# Altium schematic symbol library 10-Fuse_Osc.SchLib: 11 symbols
Pins are listed as number, name and electrical type; pins without a type are passive.

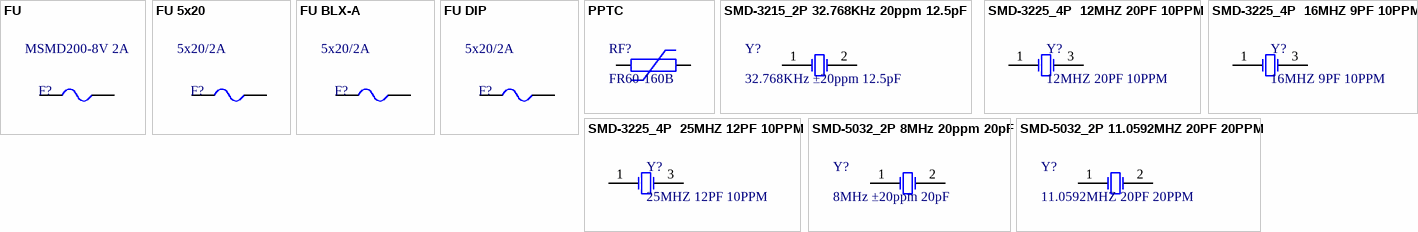
[diagram p0: symbols FU to SMD-5032_2P 11.0592MHZ 20PF 20PPM]

## FU
designator F?, comment MSMD200-8V 2A
贴片保险丝; 版权归属: 源创客; BOM名称: 贴片保险丝; 学习资源: www.ooocke.com
footprint FU 0402 (贴片保险丝)
footprint FU 0603 (贴片保险丝)
footprint FU 0805 (贴片保险丝)
footprint FU 1206 (贴片保险丝)
footprint FU 1210 (贴片保险丝)
footprint FU 1812 (贴片保险丝)
pins: 1, 2

## FU 5x20
designator F?, comment 5x20/2A
5*20保险丝; 版权归属: 源创客; BOM名称: 5*20保险丝; 学习资源: www.ooocke.com
footprint FU 5x20 (5*20保险管底座夹子)
pins: 1, 2

## FU BLX-A
designator F?, comment 5x20/2A
5*20保险丝 BLX-A型保险丝座; 版权归属: 源创客; BOM名称: 5*20保险丝; 学习资源: www.ooocke.com
footprint FU BLX-A (BLX-A型保险丝座)
pins: 1, 2

## FU DIP
designator F?, comment 5x20/2A
直插保险丝; 版权归属: 源创客; BOM名称: 直插保险丝; 学习资源: www.ooocke.com
footprint FU 4x16 (4*16mm(直径，脚距）)
footprint FU 4x16_V (4*16mm(直径，脚距）)
pins: 1, 2

## PPTC
designator RF?, comment FR60-160B
PPTC自恢复保险丝; 版权归属: 源创客; BOM名称: PPTC自恢复保险丝; 学习资源: www.ooocke.com
footprint FR60-160B (直径15.5mm，厚度3mm，脚距5.1mm)
pins: 1, 2

## SMD-3215_2P 32.768KHz 20ppm 12.5pF
designator Y?, comment 32.768KHz ±20ppm 12.5pF
贴片晶振; ComponentLink1Description: 供应商链接; ComponentLink1URL: http://www.szlcsc.com/product/details_33310.html; Package: SMD-3215_2P; Supplier: LC; SuppliersPartNumber: C32346
footprint SMD-3215_2P FC - 135
footprint OSC 3215-2P (3.2*1.5*0.6mm(长宽高))
pins: 1 OSC1, 2 OSC2

## SMD-3225_4P  12MHZ 20PF 10PPM
designator Y?, comment 12MHZ 20PF 10PPM
贴片晶振; ComponentLink1Description: 供应商链接; ComponentLink1URL: http://www.szlcsc.com/product/details_9522.html; Package: SMD-3225_4P; Supplier: LC; SuppliersPartNumber: C9002
footprint SMD-3225_4P
footprint OSC 3225-4P (3.2*2.5*0.7mm(长宽高))
pins: 1 OSC1, 3 OSC2

## SMD-3225_4P  16MHZ 9PF 10PPM
designator Y?, comment 16MHZ 9PF 10PPM
贴片晶振; ComponentLink1Description: 供应商链接; ComponentLink1URL: http://www.szlcsc.com/product/details_14393.html; Package: SMD-3225_4P; Supplier: LC; SuppliersPartNumber: C13738
footprint SMD-3225_4P
footprint OSC 3225-4P (3.2*2.5*0.7mm(长宽高))
pins: 1 OSC1, 3 OSC2

## SMD-3225_4P  25MHZ 12PF 10PPM
designator Y?, comment 25MHZ 12PF 10PPM
贴片晶振; ComponentLink1Description: 供应商链接; ComponentLink1URL: http://www.szlcsc.com/product/details_9526.html; Package: SMD-3225_4P; Supplier: LC; SuppliersPartNumber: C9006
footprint SMD-3225_4P
footprint OSC 3225-4P (3.2*2.5*0.7mm(长宽高))
pins: 1 OSC1, 3 OSC2

## SMD-5032_2P 8MHz 20ppm 20pF
designator Y?, comment 8MHz ±20ppm 20pF
贴片晶振; ComponentLink1Description: 供应商链接; ComponentLink1URL: http://www.szlcsc.com/product/details_117214.html; Package: SMD-5032_2P; Supplier: LC; SuppliersPartNumber: C115962
footprint SMD-5032_2P
footprint OSC 5032-2P (5mm*3.2mm*0.8mm(长*宽*高))
pins: 1 OSC1, 2 OSC2

## SMD-5032_2P 11.0592MHZ 20PF 20PPM
designator Y?, comment 11.0592MHZ 20PF 20PPM
贴片晶振; ComponentLink1Description: 供应商链接; ComponentLink1URL: http://www.szlcsc.com/product/details_53039.html; Package: SMD-5032_2P; Supplier: LC; SuppliersPartNumber: C52026
footprint SMD-5032_2P
footprint OSC 5032-2P (5mm*3.2mm*0.8mm(长*宽*高))
pins: 1 OSC1, 2 OSC2